# Altium footprint library ISSI.PcbLib: 3 footprints
Each footprint in its own frame and in the unit in brackets; x right, y up, seen from the top. Pads: shape width x height; smd on the part's side, far side on the other; paste and mask are expansions set on the pad; w line width, h text height; cw(c..) or ccw(c..) is an arc to the next point about the centre after c.
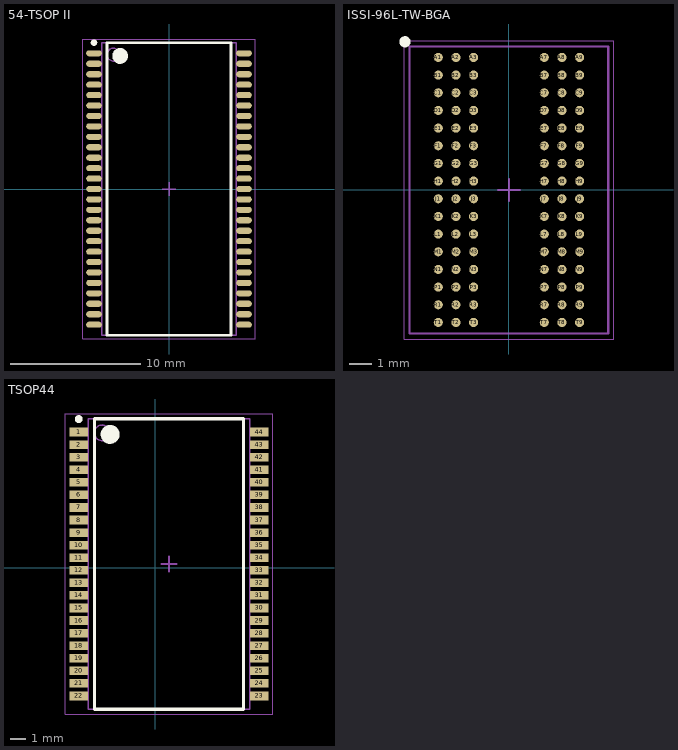
[diagram p0: the footprints below, top view; thin cyan lines are the x and y axes]

## 54-TSOP II [mm] "TSOP, 54-Leads, Body 22.22x10.16mm, Pitch 0.80mm, IPC Medium Density"
height 1.2
pads (54):
  oval 1.2x0.47 smd mask+0.09: 1(-5.75,10.4) 2(-5.75,9.6) 3(-5.75,8.8) 4(-5.75,8) 5(-5.75,7.2) 6(-5.75,6.4) 7(-5.75,5.6) 8(-5.75,4.8) 9(-5.75,4) 10(-5.75,3.2) 11(-5.75,2.4) 12(-5.75,1.6) 13(-5.75,0.8) 14(-5.75,0) 15(-5.75,-0.8) 16(-5.75,-1.6) 17(-5.75,-2.4) 18(-5.75,-3.2) 19(-5.75,-4) 20(-5.75,-4.8) 21(-5.75,-5.6) 22(-5.75,-6.4) 23(-5.75,-7.2) 24(-5.75,-8) 25(-5.75,-8.8) 26(-5.75,-9.6) 27(-5.75,-10.4) 28(5.75,-10.4) 29(5.75,-9.6) 30(5.75,-8.8) 31(5.75,-8) 32(5.75,-7.2) 33(5.75,-6.4) 34(5.75,-5.6) 35(5.75,-4.8) 36(5.75,-4) 37(5.75,-3.2) 38(5.75,-2.4) 39(5.75,-1.6) 40(5.75,-0.8) 41(5.75,0) 42(5.75,0.8) 43(5.75,1.6) 44(5.75,2.4) 45(5.75,3.2) 46(5.75,4) 47(5.75,4.8) 48(5.75,5.6) 49(5.75,6.4) 50(5.75,7.2) 51(5.75,8) 52(5.75,8.8) 53(5.75,9.6) 54(5.75,10.4)
Top Overlay:
  circle w0.25: c-5.75,11.225 r0.125
  circle w0.6: c-3.75,10.2 r0.3
  lines w0.2: -4.75,-11.2 -4.75,11.2 4.75,11.2 4.75,-11.2 -4.75,-11.2
Top Assembly:
  circle w0.1: c-4.25,10.3 r0.5
  lines w0.1: -5.15,-11.2 -5.15,11.2 5.15,11.2 5.15,-11.2 -5.15,-11.2
Top Courtyard:
  lines w0.05: -6.6,-11.5 -6.6,11.5 6.6,11.5 6.6,-11.5 -6.6,-11.5
  lines w0.1: -0.5,0 0.5,0 ; 0,-0.5 0,0.5
3D body "TSOP80P1180X120-54N.step": height 1.2, standoff 0, extent -5.88,-11.2 5.88,11.2

## ISSI-96L-TW-BGA [mm] "BGA, 96-Leads, Body 9.00x13.00mmx1.20mm, Pitch 0.80mm"
height 1.2
pads (96):
  round 0.41 smd: A1(-3.2,6) A2(-2.4,6) A3(-1.6,6) A7(1.6,6) A8(2.4,6) A9(3.2,6) B1(-3.2,5.2) B2(-2.4,5.2) B3(-1.6,5.2) B7(1.6,5.2) B8(2.4,5.2) B9(3.2,5.2) C1(-3.2,4.4) C2(-2.4,4.4) C3(-1.6,4.4) C7(1.6,4.4) C8(2.4,4.4) C9(3.2,4.4) D1(-3.2,3.6) D2(-2.4,3.6) D3(-1.6,3.6) D7(1.6,3.6) D8(2.4,3.6) D9(3.2,3.6) E1(-3.2,2.8) E2(-2.4,2.8) E3(-1.6,2.8) E7(1.6,2.8) E8(2.4,2.8) E9(3.2,2.8) F1(-3.2,2) F2(-2.4,2) F3(-1.6,2) F7(1.6,2) F8(2.4,2) F9(3.2,2) G1(-3.2,1.2) G2(-2.4,1.2) G3(-1.6,1.2) G7(1.6,1.2) G8(2.4,1.2) G9(3.2,1.2) H1(-3.2,0.4) H2(-2.4,0.4) H3(-1.6,0.4) H7(1.6,0.4) H8(2.4,0.4) H9(3.2,0.4) J1(-3.2,-0.4) J2(-2.4,-0.4) J3(-1.6,-0.4) J7(1.6,-0.4) J8(2.4,-0.4) J9(3.2,-0.4) K1(-3.2,-1.2) K2(-2.4,-1.2) K3(-1.6,-1.2) K7(1.6,-1.2) K8(2.4,-1.2) K9(3.2,-1.2) L1(-3.2,-2) L2(-2.4,-2) L3(-1.6,-2) L7(1.6,-2) L8(2.4,-2) L9(3.2,-2) M1(-3.2,-2.8) M2(-2.4,-2.8) M3(-1.6,-2.8) M7(1.6,-2.8) M8(2.4,-2.8) M9(3.2,-2.8) N1(-3.2,-3.6) N2(-2.4,-3.6) N3(-1.6,-3.6) N7(1.6,-3.6) N8(2.4,-3.6) N9(3.2,-3.6) P1(-3.2,-4.4) P2(-2.4,-4.4) P3(-1.6,-4.4) P7(1.6,-4.4) P8(2.4,-4.4) P9(3.2,-4.4) R1(-3.2,-5.2) R2(-2.4,-5.2) R3(-1.6,-5.2) R7(1.6,-5.2) R8(2.4,-5.2) R9(3.2,-5.2) T1(-3.2,-6) T2(-2.4,-6) T3(-1.6,-6) T7(1.6,-6) T8(2.4,-6) T9(3.2,-6)
Top Overlay:
  circle w0.25: c-4.71,6.71 r0.125
Top Assembly:
  lines w0.1: -4.5,-6.5 -4.5,6.5 4.5,6.5 4.5,-6.5 -4.5,-6.5
Top Courtyard:
  lines w0.05: -4.75,-6.75 -4.75,6.75 4.75,6.75 4.75,-6.75 -4.75,-6.75
  lines w0.1: -0.5,0 0.5,0 ; 0,-0.5 0,0.5
3D body "ISSI-96L-TW-BGA.step": height 1.2, standoff 0, extent -4.5,-6.5 4.5,6.5

## TSOP44 [mm] "TSOP, 44-Leads, Body 18.41x10.16mm, Pitch 0.80mm, IPC Medium Density"
height 1.05
pads (44):
  rect 1.2x0.55 smd: 1(-4.861,8.654) 2(-4.861,7.854) 3(-4.861,7.054) 4(-4.861,6.254) 5(-4.861,5.454) 6(-4.861,4.654) 7(-4.861,3.854) 8(-4.861,3.054) 9(-4.861,2.254) 10(-4.861,1.454) 11(-4.861,0.654) 12(-4.861,-0.146) 13(-4.861,-0.946) 14(-4.861,-1.746) 15(-4.861,-2.546) 16(-4.861,-3.346) 17(-4.861,-4.146) 18(-4.861,-4.946) 19(-4.861,-5.746) 20(-4.861,-6.546) 21(-4.861,-7.346) 22(-4.861,-8.146) 23(6.639,-8.146) 24(6.639,-7.346) 25(6.639,-6.546) 26(6.639,-5.746) 27(6.639,-4.946) 28(6.639,-4.146) 29(6.639,-3.346) 30(6.639,-2.546) 31(6.639,-1.746) 32(6.639,-0.946) 33(6.639,-0.146) 34(6.639,0.654) 35(6.639,1.454) 36(6.639,2.254) 37(6.639,3.054) 38(6.639,3.854) 39(6.639,4.654) 40(6.639,5.454) 41(6.639,6.254) 42(6.639,7.054) 43(6.639,7.854) 44(6.639,8.654)
Top Overlay:
  circle w0.6: c-2.861,8.504 r0.3
  circle w0.25: c-4.861,9.479 r0.125
  lines w0.2: -3.861,-8.996 5.639,-8.996 5.639,9.504 -3.861,9.504 -3.861,-8.996
Mechanical 13:
  circle w0.1: c-3.361,8.604 r0.5
  lines w0.1: -4.261,-8.996 6.039,-8.996 6.039,9.504 -4.261,9.504 -4.261,-8.996
Mechanical 15:
  lines w0.05: -5.711,-9.296 7.489,-9.296 7.489,9.804 -5.711,9.804 -5.711,-9.296
  lines w0.1: 0.389,0.254 1.389,0.254 ; 0.889,-0.246 0.889,0.754
3D body "TSOP80P1180X105-44N.step": height 1.05, standoff 0, extent -4.991,-8.996 6.769,9.504